# EAGLE library part PINHEAD_2X05 (library pinhead)
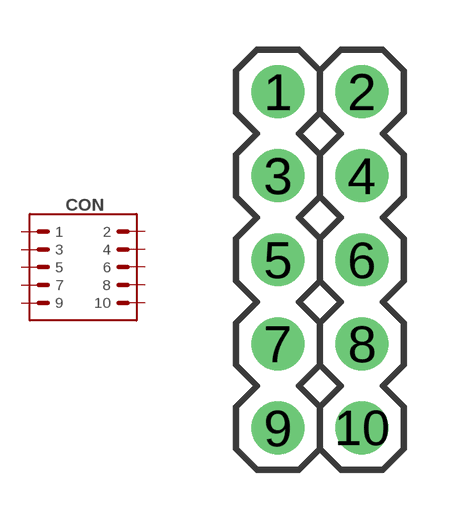
[diagram p24: symbol with the pads of 2X05-PTH-2.54; footprint 2X05-PTH-2.54]

Designator prefix CON

## PINHEAD_2X05  [2X05-PTH-2.54]
1  1  pas
2  2  pas
3  3  pas
4  4  pas
5  5  pas
6  6  pas
7  7  pas
8  8  pas
9  9  pas
10  10  pas

## Footprint 2X05-PTH-2.54 (pad centres in mm)
drill 0.9 pad 1.6: 1 -1.27,5.08; 2 1.27,5.08; 3 -1.27,2.54; 4 1.27,2.54; 5 -1.27,0; 6 1.27,0; 7 -1.27,-2.54; 8 1.27,-2.54; 9 -1.27,-5.08; 10 1.27,-5.08